# EAGLE library part MAX3387E (library m-pad)
Maxim's MAX3387E 3V, ±15kV ESD-Protected, AutoShutdown Plus RS-232 Transceiver for PDAs and Cell Phones General Description: The MAX3387E 3V powered EIA/TIA-232 and V.28/V.24 is a communications interface with low power requirements, high data-rate capabilities, and enhanced electrostatic discharge (ESD) protection. The MAX3387E has three receivers and three transmitters. All RS-232 inputs and outputs are protected to ±15kV using the IEC 1000-4-2 Air-Gap Discharge method, ±8kV using the IEC 1000-4-2 Contact Discharge method, and ±15kV using the Human Body Model. A proprietary low-dropout transmitter output stage enables true RS-232 performance from a +3.0V to +5.5V supply with a dual charge pump. The charge pump requires only four small 0.1µF capacitors for operation from a +3.3V supply. The MAX3387E is capable of running at data rates up to 250kbps while maintaining RS-232 compliant output levels. The MAX3387E has a unique VL pin that allows interoperation in mixed-logic voltage systems. Both input and output logic levels are pin programmable through the VL pin. The MAX3387E is available in a space-saving TSSOP package. Applications: Subnotebook/Palmtop Computers PDAs and PDA Cradles Cell Phone Data Cables Battery-Powered Equipment Hand-Held Equipment Peripherals Features: VL Pin for Compatibility with Mixed-Voltage Systems ±15kV ESD Protection on Rx Inputs and Tx Outputs Low 300µA Supply Current Guaranteed 250kbps Data Rate 1µA AutoShutdown Plus? with Receivers Active Meets EIA/TIA-232 Specifications Down to 3.0V Please send any comments to: messi@users.sourceforge.net
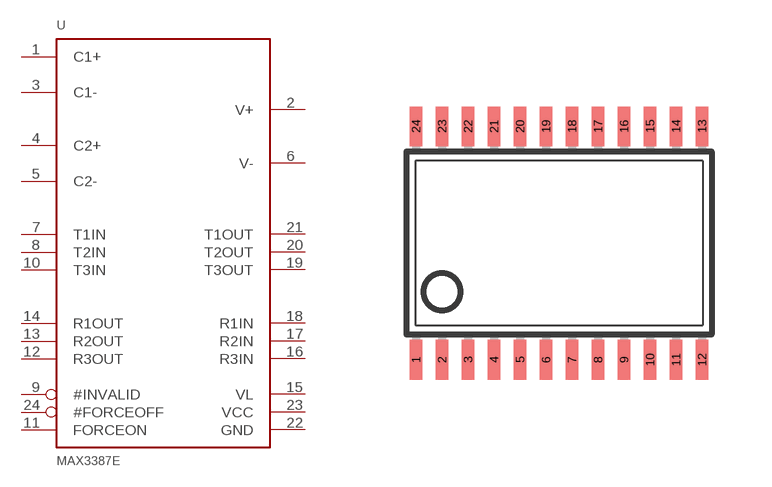
[diagram p40: symbol with the pads of TSSOP24; footprint TSSOP24]

Designator prefix U

## MAX3387E  [TSSOP24]
1  C1+  in
2  V+  in
3  C1-  in
4  C2+  in
5  C2-  in
6  V-  in
7  T1IN  in
8  T2IN  in
9  #INVALID  out
10  T3IN  in
11  FORCEON  in
12  R3OUT  out
13  R2OUT  out
14  R1OUT  out
15  VL  pwr
16  R3IN  in
17  R2IN  in
18  R1IN  in
19  T3OUT
20  T2OUT
21  T1OUT
22  GND  pwr
23  VCC  pwr
24  #FORCEOFF  in

## Footprint TSSOP24 (pad centres in mm)
Thin Shrink Small Outline Plastic 24 MAX3223-MAX3243.pdf
smd 0.305 x 0.991: 1 -3.575,-2.918; 2 -2.925,-2.918; 3 -2.275,-2.918; 4 -1.625,-2.918; 5 -0.975,-2.918; 6 -0.325,-2.918; 7 0.325,-2.918; 8 0.975,-2.918; 9 1.625,-2.918; 10 2.275,-2.918; 11 2.925,-2.918; 12 3.575,-2.918; 13 3.575,2.918; 14 2.925,2.918; 15 2.275,2.918; 16 1.625,2.918; 17 0.975,2.918; 18 0.325,2.918; 19 -0.325,2.918; 20 -0.975,2.918; 21 -1.625,2.918; 22 -2.275,2.918; 23 -2.925,2.918; 24 -3.575,2.918